# Altium footprint library 6.6x6.6x8_SMT_POLAR_CAP.PcbLib: 1 footprints
Each footprint in its own frame and in the unit in brackets; x right, y up, seen from the top. Pads: shape width x height; smd on the part's side, far side on the other; paste and mask are expansions set on the pad; w line width, h text height; cw(c..) or ccw(c..) is an arc to the next point about the centre after c.
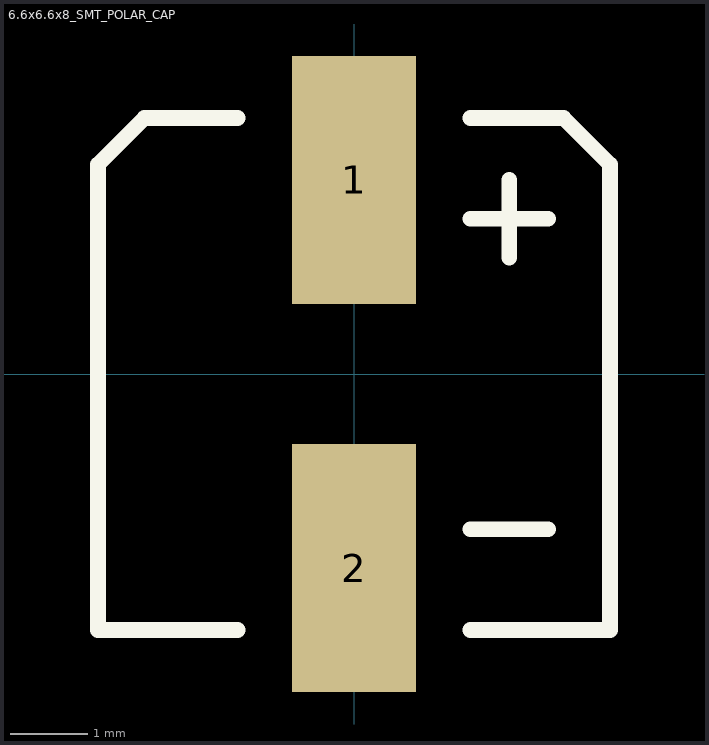
[diagram p0: the footprint, top view; thin cyan lines are the x and y axes]

## 6.6x6.6x8_SMT_POLAR_CAP [mm]
pads (2):
  rect 1.6x3.2 smd: 1(0,2.5) 2(0,-2.5)
Top Overlay:
  lines w0.203: -1.5,-3.3 -3.3,-3.3 -3.3,2.7 -2.7,3.3 -1.5,3.3 ; 1.5,-3.3 3.3,-3.3 3.3,2.7 2.7,3.3 1.5,3.3 ; 1.5,-2 2.5,-2 ; 1.5,2 2.5,2 ; 2,1.5 2,2.5
3D body: height 8, standoff 0, extent -3.15,-3.147 3.15,3.147